# EAGLE library part LM317LM (library 1A-meinLib)
3-Terminal Adjustable Regulator
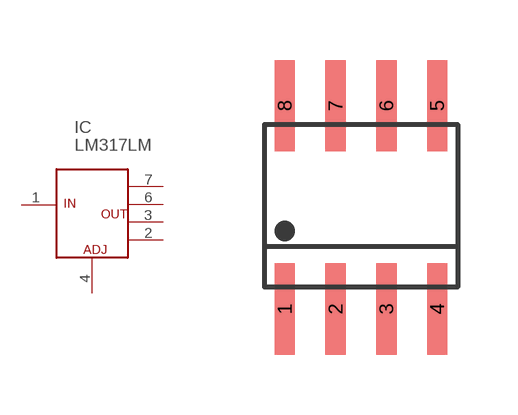
[diagram p184: symbol with the pads of SO-8_M08A; footprint SO-8_M08A]

Designator prefix IC

## LM317LM  [SO-8_M08A]
1  VIN  in
2  OUT1  pwr
3  OUT2  pwr
4  ADJ  pas
6  OUT3  pwr
7  OUT4  pwr

## Footprint SO-8_M08A (pad centres in mm)
SO-8 Molded Package, NS Packagage Number M08A
smd 0.508 x 2.286: 1 -1.27,-2.54; 2 0,-2.54; 3 1.27,-2.54; 4 2.54,-2.54; 5 2.54,2.54; 6 1.27,2.54; 7 0,2.54; 8 -1.27,2.54